# Altium footprint library IC-SMD.PCBLIB: 298 footprints (part 6 of 19)
Each footprint in its own frame and in the unit in brackets; x right, y up, seen from the top. Pads: shape width x height; smd on the part's side, far side on the other; paste and mask are expansions set on the pad; w line width, h text height; cw(c..) or ccw(c..) is an arc to the next point about the centre after c.
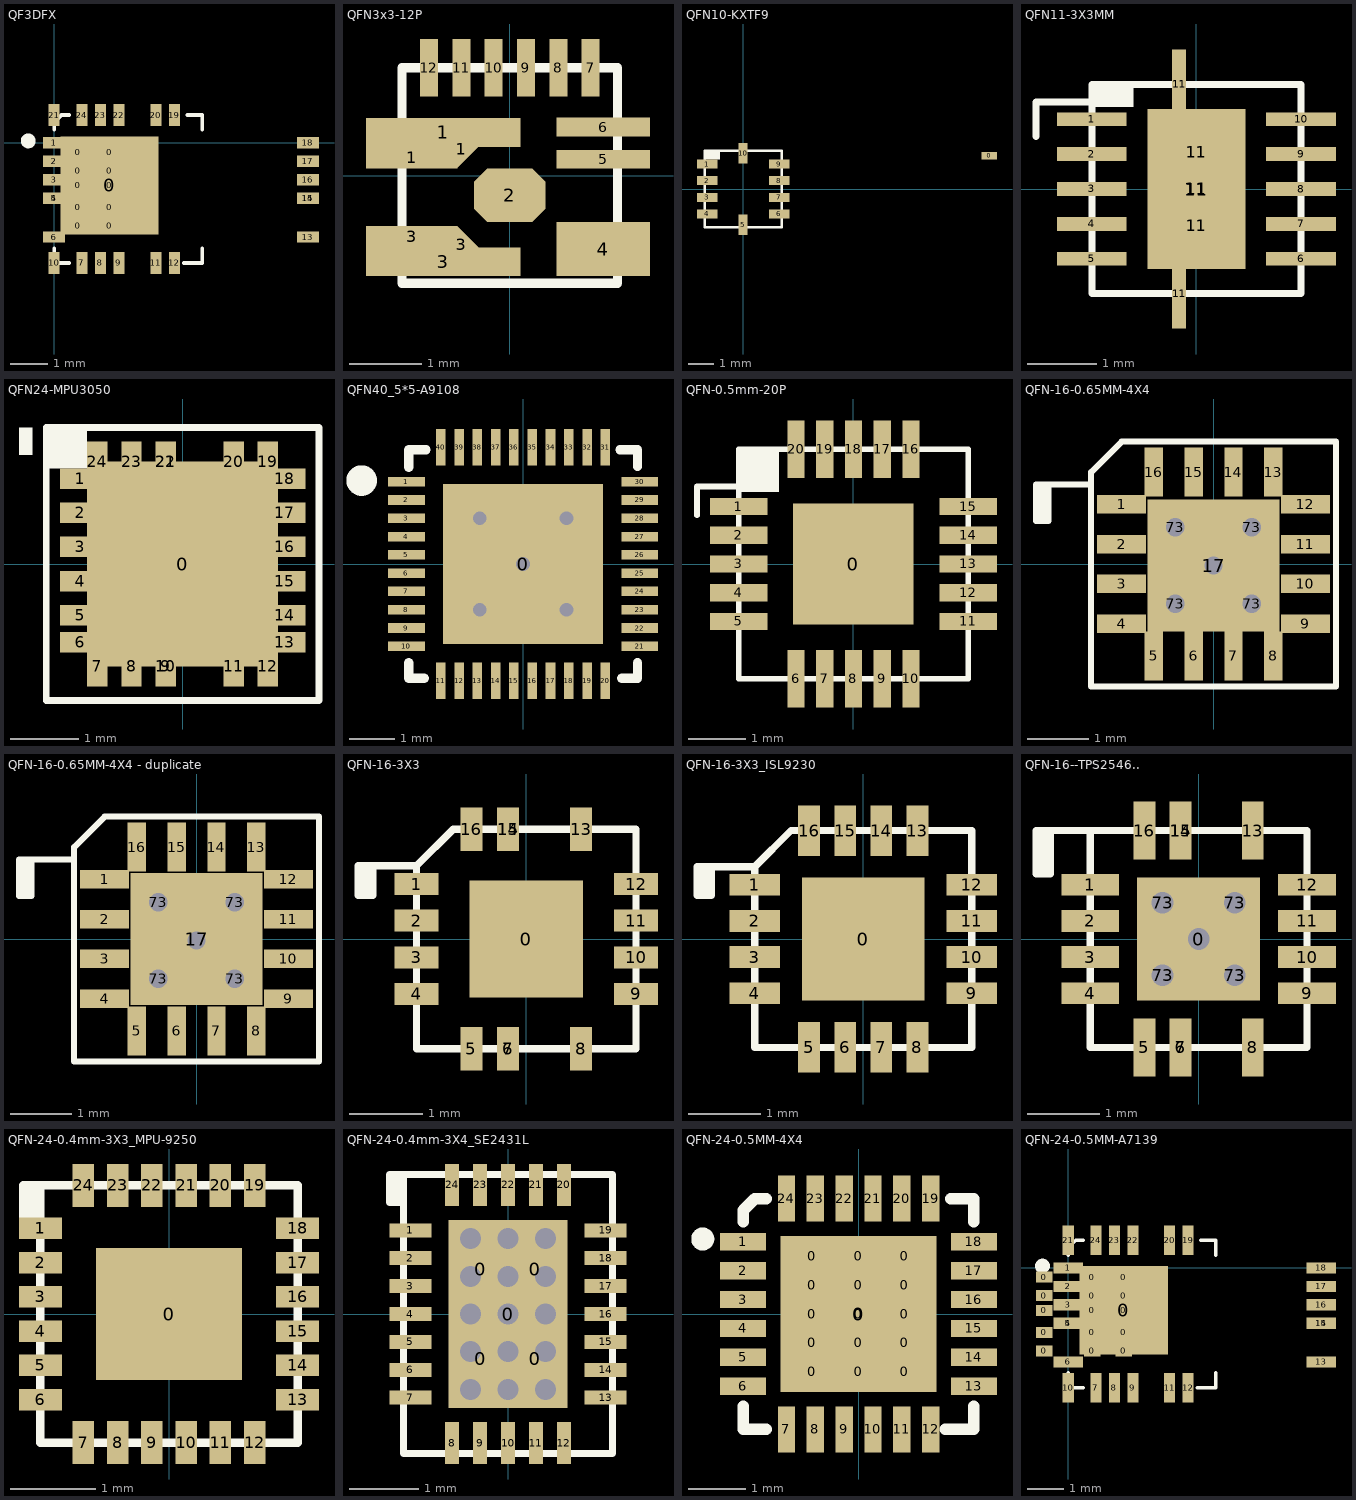
[diagram p5: the footprints below, top view; thin cyan lines are the x and y axes]

## QF3DFX [mm]
pads (40):
  rect 0.6x0.3 on Top Solder: 0(-0.65,-2.25) 0(-0.65,-1.75) 0(-0.65,-1.15) 0(-0.65,-0.75) 0(-0.65,-0.25) 0(0.65,-2.25) 0(0.65,-1.75) 0(0.65,-1.15) 0(0.65,-0.75) 0(0.65,-0.25) 0(1.5,-2.25) 0(1.5,-1.75) 0(1.5,-1.15) 0(1.5,-0.75) 0(1.5,-0.25)
  rect 2.65x2.65 smd: 0(1.5,-1.15)
  rect 0.6x0.3 smd: 1(0,0) 2(0,-0.5) 3(0,-1) 4(0,-1.5) 5(0,-1.5) 6(0,-2.55) 13(6.86,-2.55) 14(6.86,-1.5) 15(6.86,-1.5) 16(6.86,-1) 17(6.86,-0.5) 18(6.86,0)
  rect 0.3x0.6 smd: 7(0.75,-3.25) 8(1.25,-3.25) 9(1.75,-3.25) 10(0,-3.25) 11(2.75,-3.25) 12(3.25,-3.25) 19(3.25,0.75) 20(2.75,0.75) 21(0,0.75) 22(1.75,0.75) 23(1.25,0.75) 24(0.75,0.75)
TopOverlay:
  circle w0.2: c-0.7,0.05 r0.1
  lines w0.1: 0,-2.85 0,-3.25 0.4,-3.25 ; 0,0.35 0,0.55 0.2,0.75 0.4,0.75 ; 3.5,-3.25 4,-3.25 4,-2.85 ; 3.6,0.75 4,0.75 4,0.35

## QFN3x3-12P [mm] "QFN3x3-12P"
pads (16):
  rect 1.27x0.3 smd mask+0.05: 1(-1.365,0.25) 3(-1.365,-0.85)
  rect 2.15x0.4 smd mask+0.05: 1(-0.925,0.6) 3(-0.925,-1.2)
  rect 0.45x0.3 smd rot 45 mask+0.05: 1(-0.677,0.365)
  oct 1x0.75 smd mask+0.05: 2(0,-0.275)
  rect 0.45x0.3 smd rot 135 mask+0.05: 3(-0.677,-0.965)
  rect 1.3x0.75 smd mask+0.05: 4(1.3,-1.025)
  rect 1.3x0.26 smd mask+0.05: 5(1.3,0.225) 6(1.3,0.675)
  rect 0.25x0.8 smd mask+0.05: 7(1.125,1.5) 8(0.675,1.5) 9(0.225,1.5) 10(-0.225,1.5) 11(-0.675,1.5) 12(-1.125,1.5)
TopOverlay:
  lines w0.127: -1.5,-1.5 1.5,-1.5 1.5,1.5 -1.5,1.5 -1.5,-1.5

## QFN10-KXTF9 [mm]
pads (11):
  rect 0.6x0.3 smd: 0(9.6,1.3)
  rect 0.8x0.35 smd: 1(-1.4,0.975) 2(-1.4,0.325) 3(-1.4,-0.325) 4(-1.4,-0.975) 6(1.4,-0.975) 7(1.4,-0.325) 8(1.4,0.325) 9(1.4,0.975)
  rect 0.35x0.8 smd: 5(0,-1.4) 10(0,1.4)
TopOverlay:
  rectangle: -1.5,1.15 -0.9,1.5
  lines w0.1: -1.5,-1.5 -1.5,1.5 1.5,1.5 1.5,-1.5 -1.5,-1.5

## QFN11-3X3MM [mm]
pads (18):
  rect 1x0.2 smd: 1(-1.5,1) 2(-1.5,0.5) 3(-1.5,0) 4(-1.5,-0.5) 5(-1.5,-1) 6(1.5,-1) 7(1.5,-0.5) 8(1.5,0) 9(1.5,0.5) 10(1.5,1)
  rect 0.2x1 smd: 11(-0.25,-1.5) 11(-0.25,-1.5) 11(-0.25,1.5) 11(-0.25,1.5)
  rect 0.6x0.3 smd: 11(0,-0.525) 11(0,0) 11(0,0.525)
  rect 1.4x2.3 smd: 11(0,0)
TopOverlay:
  rectangle: -1.5,1.175 -0.9,1.5
  lines w0.1: -2.3,0.75 -2.3,1.25 -1.5,1.25 ; -1.5,-1.5 1.5,-1.5 1.5,1.5 -1.5,1.5 -1.5,-1.5

## QFN24-MPU3050 [mm]
pads (25):
  rect 2.8x3 smd: 0(0,0)
  rect 0.6x0.3 smd: 1(-1.5,1.25) 2(-1.5,0.75) 3(-1.5,0.25) 4(-1.5,-0.25) 5(-1.5,-0.75) 6(-1.5,-1.15) 13(1.5,-1.15) 14(1.5,-0.75) 15(1.5,-0.25) 16(1.5,0.25) 17(1.5,0.75) 18(1.5,1.25)
  rect 0.3x0.6 smd: 7(-1.25,-1.5) 8(-0.75,-1.5) 9(-0.25,-1.5) 10(-0.25,-1.5) 11(0.75,-1.5) 12(1.25,-1.5) 19(1.25,1.5) 20(0.75,1.5) 21(-0.25,1.5) 22(-0.25,1.5) 23(-0.75,1.5) 24(-1.25,1.5)
TopOverlay:
  rectangle: -2,1.4 -1.4,2
  rectangle: -2.4,1.6 -2.2,2
  lines w0.1: -2,-2 2,-2 2,2 -2,2 -2,-2

## QFN40_5*5-A9108 [mm] "QFN40_5*5-A9108"
pads (41):
  rect 3.5x3.5 smd: 0(0,0)
  rect 0.8x0.21 smd: 1(-2.55,1.8) 2(-2.55,1.4) 3(-2.55,1) 4(-2.55,0.6) 5(-2.55,0.2) 6(-2.55,-0.2) 7(-2.55,-0.6) 8(-2.55,-1) 9(-2.55,-1.4) 10(-2.55,-1.8) 21(2.55,-1.8) 22(2.55,-1.4) 23(2.55,-1) 24(2.55,-0.6) 25(2.55,-0.2) 26(2.55,0.2) 27(2.55,0.6) 28(2.55,1) 29(2.55,1.4) 30(2.55,1.8)
  rect 0.21x0.8 smd: 11(-1.8,-2.55) 12(-1.4,-2.55) 13(-1,-2.55) 14(-0.6,-2.55) 15(-0.2,-2.55) 16(0.2,-2.55) 17(0.6,-2.55) 18(1,-2.55) 19(1.4,-2.55) 20(1.8,-2.55) 31(1.8,2.55) 32(1.4,2.55) 33(1,2.55) 34(0.6,2.55) 35(0.2,2.55) 36(-0.2,2.55) 37(-0.6,2.55) 38(-1,2.55) 39(-1.4,2.55) 40(-1.8,2.55)
via 0.95,-1 diameter 0.5 hole 0.3
via -0.95,-1 diameter 0.5 hole 0.3
via 0.95,1 diameter 0.5 hole 0.3
via -0.95,1 diameter 0.5 hole 0.3
via 0,0 diameter 0.5 hole 0.3
TopOverlay:
  circle w0.508: c-3.53,1.825 r0.08
  lines w0.203: -2.5,-2.159 -2.5,-2.5 -2.159,-2.5 ; -2.5,2.117 -2.5,2.5 -2.125,2.5 ; 2.117,2.5 2.5,2.5 2.5,2.134 ; 2.159,-2.5 2.5,-2.5 2.5,-2.159

## QFN-0.5mm-20P [mm] "QFN-0.5mm-20P"
pads (21):
  rect 2.1x2.1 smd: 0(0,0)
  rect 1x0.3 smd: 1(-2,1) 2(-2,0.5) 3(-2,0) 4(-2,-0.5) 5(-2,-1) 11(2,-1) 12(2,-0.5) 13(2,0) 14(2,0.5) 15(2,1)
  rect 0.3x1 smd: 6(-1,-2) 7(-0.5,-2) 8(0,-2) 9(0.5,-2) 10(1,-2) 16(1,2) 17(0.5,2) 18(0,2) 19(-0.5,2) 20(-1,2)
TopOverlay:
  rectangle: -2,1.25 -1.3,2
  lines w0.1: -2.725,0.85 -2.725,1.35 -2,1.35 ; -2,-2 2,-2 2,2 -2,2 -2,-2

## QFN-16-0.65MM-4X4 [mm]
pads (21):
  rect 0.8x0.3 smd: 1(-1.5,0.975) 2(-1.5,0.325) 3(-1.5,-0.325) 4(-1.5,-0.975) 9(1.5,-0.975) 10(1.5,-0.325) 11(1.5,0.325) 12(1.5,0.975)
  rect 0.3x0.8 smd: 5(-0.975,-1.5) 6(-0.325,-1.5) 7(0.325,-1.5) 8(0.975,-1.5) 13(0.975,1.5) 14(0.325,1.5) 15(-0.325,1.5) 16(-0.975,1.5)
  rect 2.16x2.16 smd: 17(0,-0.025)
  rect 0.7x0.3 on Top Paste: 73(-0.625,-0.65) 73(-0.625,0.6) 73(0.625,-0.65) 73(0.625,0.6)
via 0,-0.025 diameter 0.5 hole 0.3
via -0.625,-0.65 diameter 0.5 hole 0.3
via 0.625,-0.65 diameter 0.5 hole 0.3
via -0.625,0.6 diameter 0.5 hole 0.3
via 0.625,0.6 diameter 0.5 hole 0.3
TopOverlay:
  rectangle: -2.9,0.7 -2.7,1.3
  lines w0.1: -2,1.3 -2.7,1.3 ; -2.7,1.3 -2.7,0.7 -2.9,0.7 -2.9,1.3 -2.7,1.3 ; -2,-2 2,-2 2,2 -1.5,2 -2,1.5 -2,-2

## QFN-16-0.65MM-4X4 - duplicate [mm]
pads (21):
  rect 0.8x0.3 smd: 1(-1.5,0.975) 2(-1.5,0.325) 3(-1.5,-0.325) 4(-1.5,-0.975) 9(1.5,-0.975) 10(1.5,-0.325) 11(1.5,0.325) 12(1.5,0.975)
  rect 0.3x0.8 smd: 5(-0.975,-1.5) 6(-0.325,-1.5) 7(0.325,-1.5) 8(0.975,-1.5) 13(0.975,1.5) 14(0.325,1.5) 15(-0.325,1.5) 16(-0.975,1.5)
  rect 2.16x2.16 smd: 17(0,0)
  rect 0.7x0.3 on Top Paste: 73(-0.625,-0.65) 73(-0.625,0.6) 73(0.625,-0.65) 73(0.625,0.6)
via 0,-0.025 diameter 0.5 hole 0.3
via -0.625,-0.65 diameter 0.5 hole 0.3
via 0.625,-0.65 diameter 0.5 hole 0.3
via -0.625,0.6 diameter 0.5 hole 0.3
via 0.625,0.6 diameter 0.5 hole 0.3
TopOverlay:
  rectangle: -2.9,0.7 -2.7,1.3
  lines w0.1: -2,1.3 -2.7,1.3 ; -2.7,1.3 -2.7,0.7 -2.9,0.7 -2.9,1.3 -2.7,1.3 ; -2,-2 2,-2 2,2 -1.5,2 -2,1.5 -2,-2

## QFN-16-3X3 [mm]
pads (17):
  rect 1.55x1.6 smd: 0(0,0)
  rect 0.6x0.3 smd: 1(-1.5,0.75) 2(-1.5,0.25) 3(-1.5,-0.25) 4(-1.5,-0.75) 9(1.5,-0.75) 10(1.5,-0.25) 11(1.5,0.25) 12(1.5,0.75)
  rect 0.3x0.6 smd: 5(-0.75,-1.5) 6(-0.25,-1.5) 7(-0.25,-1.5) 8(0.75,-1.5) 13(0.75,1.5) 14(-0.25,1.5) 15(-0.25,1.5) 16(-0.75,1.5)
TopOverlay:
  rectangle: -2.3,0.6 -2.1,1
  lines w0.1: -2.1,1 -2.3,1 -2.3,0.6 -2.1,0.6 -2.1,1 ; -2.1,1 -1.5,1 ; -1.5,1 -1,1.5 1.5,1.5 1.5,-1.5 -1.5,-1.5 -1.5,1

## QFN-16-3X3_ISL9230 [mm] "QFN-16-3X3_ISL9230"
pads (17):
  rect 1.7x1.7 smd: 0(0,0)
  rect 0.7x0.3 smd: 1(-1.5,0.75) 2(-1.5,0.25) 3(-1.5,-0.25) 4(-1.5,-0.75) 9(1.5,-0.75) 10(1.5,-0.25) 11(1.5,0.25) 12(1.5,0.75)
  rect 0.3x0.7 smd: 5(-0.75,-1.5) 6(-0.25,-1.5) 7(0.25,-1.5) 8(0.75,-1.5) 13(0.75,1.5) 14(0.25,1.5) 15(-0.25,1.5) 16(-0.75,1.5)
TopOverlay:
  rectangle: -2.3,0.6 -2.1,1
  lines w0.1: -2.1,1 -2.3,1 -2.3,0.6 -2.1,0.6 -2.1,1 ; -2.1,1 -1.5,1 ; -1.5,1 -1,1.5 1.5,1.5 1.5,-1.5 -1.5,-1.5 -1.5,1

## QFN-16--TPS2546.. [mm] "QFN-16--TPS2546.."
pads (21):
  rect 1.7x1.7 smd: 0(0,0)
  rect 0.8x0.3 smd: 1(-1.5,0.75) 2(-1.5,0.25) 3(-1.5,-0.25) 4(-1.5,-0.75) 9(1.5,-0.75) 10(1.5,-0.25) 11(1.5,0.25) 12(1.5,0.75)
  rect 0.3x0.8 smd: 5(-0.75,-1.5) 6(-0.25,-1.5) 7(-0.25,-1.5) 8(0.75,-1.5) 13(0.75,1.5) 14(-0.25,1.5) 15(-0.25,1.5) 16(-0.75,1.5)
  rect 0.7x0.3 on Top Paste: 73(-0.5,-0.5) 73(-0.5,0.5) 73(0.5,-0.5) 73(0.5,0.5)
via 0,0 diameter 0.5 hole 0.3
via -0.5,-0.5 diameter 0.5 hole 0.3
via 0.5,-0.5 diameter 0.5 hole 0.3
via -0.5,0.5 diameter 0.5 hole 0.3
via 0.5,0.5 diameter 0.5 hole 0.3
TopOverlay:
  rectangle: -2.25,0.9 -2.05,1.5
  lines w0.1: -2.075,1.5 1.5,1.5 1.5,-1.5 -1.5,-1.5 -1.5,1.5 ; -2.25,0.9 -2.05,0.9 -2.05,1.5 -2.25,1.5 -2.25,0.9

## QFN-24-0.4mm-3X3_MPU-9250 [mm] "QFN-24-0.4mm-3X3_MPU-9250"
pads (25):
  rect 1.7x1.54 smd: 0(0,0)
  rect 0.5x0.25 smd: 1(-1.5,1) 2(-1.5,0.6) 3(-1.5,0.2) 4(-1.5,-0.2) 5(-1.5,-0.6) 6(-1.5,-1) 13(1.5,-1) 14(1.5,-0.6) 15(1.5,-0.2) 16(1.5,0.2) 17(1.5,0.6) 18(1.5,1)
  rect 0.25x0.5 smd: 7(-1,-1.5) 8(-0.6,-1.5) 9(-0.2,-1.5) 10(0.2,-1.5) 11(0.6,-1.5) 12(1,-1.5) 19(1,1.5) 20(0.6,1.5) 21(0.2,1.5) 22(-0.2,1.5) 23(-0.6,1.5) 24(-1,1.5)
TopOverlay:
  rectangle: -1.7,1.1 -1.5,1.5
  lines w0.1: -1.5,1.5 -1.5,1.1 -1.7,1.1 -1.7,1.5 -1.5,1.5 ; -1.5,1.5 -1.5,-1.5 1.5,-1.5 1.5,1.5 -1.5,1.5

## QFN-24-0.4mm-3X4_SE2431L [mm] "QFN-24-0.4mm-3X4_SE2431L"
pads (29):
  rect 0.58x1.08 on Top Paste: 0(-0.39,-0.64) 0(-0.39,0.64) 0(0.39,-0.64) 0(0.39,0.64)
  rect 1.7x2.7 smd paste-5 mask+0.05: 0(0,0)
  rect 0.6x0.2 smd mask+0.05: 1(-1.4,1.2) 2(-1.4,0.8) 3(-1.4,0.4) 4(-1.4,0) 5(-1.4,-0.4) 6(-1.4,-0.8) 7(-1.4,-1.2) 13(1.4,-1.2) 14(1.4,-0.8) 15(1.4,-0.4) 16(1.4,0) 17(1.4,0.4) 18(1.4,0.8) 19(1.4,1.2)
  rect 0.2x0.6 smd mask+0.05: 8(-0.8,-1.85) 9(-0.4,-1.85) 10(0,-1.85) 11(0.4,-1.85) 12(0.8,-1.85) 20(0.8,1.85) 21(0.4,1.85) 22(0,1.85) 23(-0.4,1.85) 24(-0.8,1.85)
via 0,0 diameter 0.453 hole 0.3
via -0.54,0 diameter 0.453 hole 0.3
via 0.54,0 diameter 0.453 hole 0.3
via 0.54,0.54 diameter 0.453 hole 0.3
via -0.54,0.54 diameter 0.453 hole 0.3
via 0,0.54 diameter 0.453 hole 0.3
via 0,1.08 diameter 0.453 hole 0.3
via -0.54,1.08 diameter 0.453 hole 0.3
via 0.54,1.08 diameter 0.453 hole 0.3
via 0,-0.54 diameter 0.453 hole 0.3
via -0.54,-0.54 diameter 0.453 hole 0.3
via 0.54,-0.54 diameter 0.453 hole 0.3
via 0,-1.08 diameter 0.453 hole 0.3
via -0.54,-1.08 diameter 0.453 hole 0.3
via 0.54,-1.08 diameter 0.453 hole 0.3
TopOverlay:
  rectangle: -1.7,1.6 -1.5,2
  lines w0.1: -1.5,1.6 -1.7,1.6 -1.7,2 -1.5,2 ; -1.5,2 -1.5,-2 1.5,-2 1.5,2 -1.5,2

## QFN-24-0.5MM-4X4 [mm]
pads (40):
  rect 0.45x0.3 on Top Solder: 0(-0.8,-1) 0(-0.8,-0.5) 0(-0.8,0) 0(-0.8,0.5) 0(-0.8,1) 0(0,-1) 0(0,-0.5) 0(0,0) 0(0,0.5) 0(0,1) 0(0.8,-1) 0(0.8,-0.5) 0(0.8,0) 0(0.8,0.5) 0(0.8,1)
  rect 2.7x2.7 smd: 0(0,0)
  rect 0.8x0.3 smd: 1(-2,1.25) 2(-2,0.75) 3(-2,0.25) 4(-2,-0.25) 5(-2,-0.75) 6(-2,-1.25) 13(2,-1.25) 14(2,-0.75) 15(2,-0.25) 16(2,0.25) 17(2,0.75) 18(2,1.25)
  rect 0.3x0.8 smd: 7(-1.25,-2) 8(-0.75,-2) 9(-0.25,-2) 10(0.25,-2) 11(0.75,-2) 12(1.25,-2) 19(1.25,2) 20(0.75,2) 21(0.25,2) 22(-0.25,2) 23(-0.75,2) 24(-1.25,2)
TopOverlay:
  circle w0.2: c-2.7,1.3 r0.1
  lines w0.2: -2,-1.6 -2,-2 -1.6,-2 ; -2,1.6 -2,1.8 -1.8,2 -1.6,2 ; 1.5,-2 2,-2 2,-1.6 ; 1.6,2 2,2 2,1.6

## QFN-24-0.5MM-A7139 [mm]
pads (40):
  rect 0.45x0.3 smd: 0(-0.65,-2.25) 0(-0.65,-1.75) 0(-0.65,-1.15) 0(-0.65,-0.75) 0(-0.65,-0.25) 0(0.65,-2.25) 0(0.65,-1.75) 0(0.65,-1.15) 0(0.65,-0.75) 0(0.65,-0.25) 0(1.5,-2.25) 0(1.5,-1.75) 0(1.5,-1.15) 0(1.5,-0.75) 0(1.5,-0.25)
  rect 2.4x2.4 smd: 0(1.5,-1.15)
  rect 0.8x0.3 smd: 1(0,0) 2(0,-0.5) 3(0,-1) 4(0,-1.5) 5(0,-1.5) 6(0,-2.55) 13(6.86,-2.55) 14(6.86,-1.5) 15(6.86,-1.5) 16(6.86,-1) 17(6.86,-0.5) 18(6.86,0)
  rect 0.3x0.8 smd: 7(0.75,-3.25) 8(1.25,-3.25) 9(1.75,-3.25) 10(0,-3.25) 11(2.75,-3.25) 12(3.25,-3.25) 19(3.25,0.75) 20(2.75,0.75) 21(0,0.75) 22(1.75,0.75) 23(1.25,0.75) 24(0.75,0.75)
TopOverlay:
  circle w0.2: c-0.7,0.05 r0.1
  lines w0.1: 0,-2.85 0,-3.25 0.4,-3.25 ; 0,0.35 0,0.55 0.2,0.75 0.4,0.75 ; 3.5,-3.25 4,-3.25 4,-2.85 ; 3.6,0.75 4,0.75 4,0.35